# Altium footprint library GeneralCases.PcbLib: 45 footprints (part 1 of 3)
Each footprint in its own frame and in the unit in brackets; x right, y up, seen from the top. Pads: shape width x height; smd on the part's side, far side on the other; paste and mask are expansions set on the pad; w line width, h text height; cw(c..) or ccw(c..) is an arc to the next point about the centre after c.
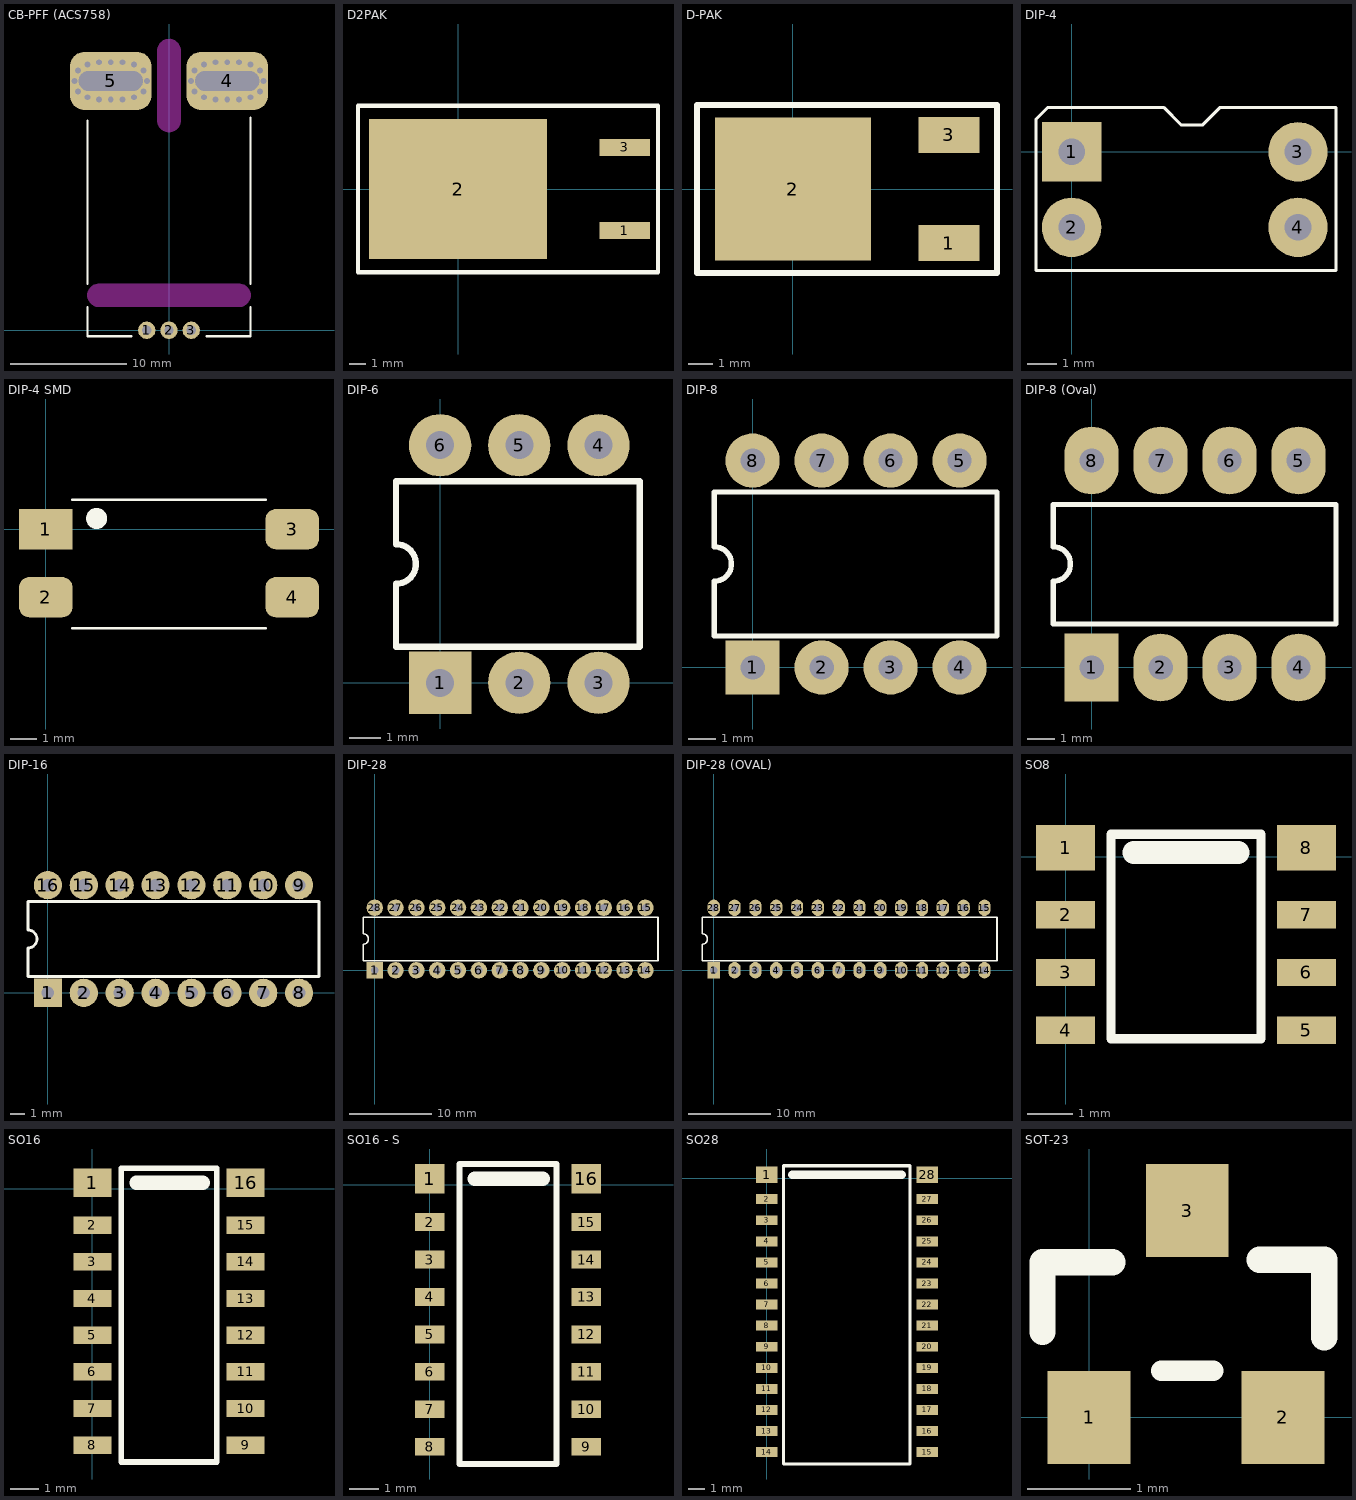
[diagram p0: the footprints below, top view; thin cyan lines are the x and y axes]

## CB-PFF (ACS758) [mm] "Allegro Current sensor"
height 7
pads (5):
  round 1.5 hole 0.8: 1(-1.91,0) 2(0,0) 3(1.91,0)
  rrect50% 7x5 hole 1.7 slot 5.5 at 0 deg: 4(5,21.4) 5(-5,21.4)
via -1.9,21.4 diameter 0.6 hole 0.5
via -5,23 diameter 0.6 hole 0.5
via -4,23 diameter 0.6 hole 0.5
via -6,23 diameter 0.6 hole 0.5
via -8.1,21.4 diameter 0.6 hole 0.5
via -2.2,22.3 diameter 0.6 hole 0.5
via -3,22.8 diameter 0.6 hole 0.5
via -7,22.8 diameter 0.6 hole 0.5
via -7.8,22.3 diameter 0.6 hole 0.5
via -7.8,20.5 diameter 0.6 hole 0.5
via -2.2,20.5 diameter 0.6 hole 0.5
via -7,20 diameter 0.6 hole 0.5
via -3,20 diameter 0.6 hole 0.5
via -6,19.8 diameter 0.6 hole 0.5
via -4,19.8 diameter 0.6 hole 0.5
via -5,19.8 diameter 0.6 hole 0.5
via 5,19.8 diameter 0.6 hole 0.5
via 6,19.8 diameter 0.6 hole 0.5
via 4,19.8 diameter 0.6 hole 0.5
via 7,20 diameter 0.6 hole 0.5
via 3,20 diameter 0.6 hole 0.5
via 7.8,20.5 diameter 0.6 hole 0.5
via 2.2,20.5 diameter 0.6 hole 0.5
via 2.2,22.3 diameter 0.6 hole 0.5
via 3,22.8 diameter 0.6 hole 0.5
via 7,22.8 diameter 0.6 hole 0.5
via 7.8,22.3 diameter 0.6 hole 0.5
via 1.9,21.4 diameter 0.6 hole 0.5
via 4,23 diameter 0.6 hole 0.5
via 6,23 diameter 0.6 hole 0.5
via 5,23 diameter 0.6 hole 0.5
via 8.1,21.4 diameter 0.6 hole 0.5
Top Overlay:
  lines w0.2: -7,2 -7,-0.5 -3.25,-0.5 ; -7,4 -7,18 ; 3.25,-0.5 7,-0.5 7,2 ; 7,4 7,18.25
Keep-Out Layer:
  board cut-out: 0,17 0.098,17 0.291,17.038 0.473,17.114 0.637,17.223 0.777,17.362 0.886,17.526 0.961,17.708 1,17.901 1,18 1,24 1,24.098 0.962,24.292 0.886,24.474 0.777,24.637 0.637,24.777 0.474,24.886 0.292,24.962 0.098,25 0,25 -0.099,25 -0.292,24.961 -0.474,24.886 -0.637,24.777 -0.777,24.637 -0.886,24.474 -0.961,24.292 -1,24.099 -1,24 -1,18 -1,17.901 -0.962,17.708 -0.886,17.526 -0.777,17.363 -0.638,17.223 -0.474,17.114 -0.292,17.038 -0.099,17
  board cut-out: 6,2 -6,2 -6.099,2 -6.292,2.038 -6.474,2.114 -6.637,2.223 -6.777,2.363 -6.886,2.526 -6.962,2.708 -7,2.902 -7,3 -7,3.099 -6.962,3.292 -6.886,3.474 -6.777,3.637 -6.637,3.777 -6.474,3.886 -6.292,3.962 -6.099,4 -6,4 6,4 6.099,4 6.292,3.962 6.474,3.886 6.637,3.777 6.777,3.637 6.886,3.474 6.962,3.292 7,3.099 7,3 7,2.902 6.962,2.708 6.886,2.526 6.777,2.363 6.638,2.223 6.474,2.114 6.292,2.038 6.098,2
3D body "ACS758-TTT-XXXX.step": height 7.1, standoff -3.52, extent -7,-0.554 7,22.2

## D2PAK [mm]
height 4.5
pads (3):
  rect 3.05x1.016 smd: 1(10,-2.5) 3(10,2.5)
  rect 10.66x8.38 smd: 2(0,0)
Top Overlay:
  lines w0.254: -6,-5 -6,5 12,5 12,-5 -6,-5
3D body "DPAK.step": height 4.88, standoff -0.13, extent -4.264,-5.08 11,5.08

## D-PAK [mm]
height 2.38
pads (3):
  rect 2.54x1.5 smd: 1(6.5,-2.25) 3(6.5,2.25)
  rect 6.48x5.97 smd: 2(0,0)
Top Overlay:
  lines w0.254: -4,-3.5 -4,3.5 8.5,3.5 8.5,-3.5 -4,-3.5
3D body "D-PAK (TO-252AA).step": height 2.3, standoff -0.01, extent -2.7,-3.29 7,3.29

## DIP-4 [mm]
pads (4):
  rect 2x2 hole 0.9: 1(0,0)
  round 2 hole 0.9: 2(0,-2.54) 3(7.62,0) 4(7.62,-2.54)
Top Overlay:
  lines w0.1: -1.2,-4 -1.2,1.1 -0.8,1.5 3.1,1.5 3.7,0.9 4.4,0.9 5,1.5 8.9,1.5 8.9,-4 -1.2,-4
3D body "DIP4.step": height 4.31, standoff -3.28, extent -0.2,-4 7.8,1.54

## DIP-4 SMD [mm]
pads (4):
  rect 2x1.5 smd: 1(0,0)
  rrect50% 2x1.5 smd: 2(0,-2.54) 3(9.2,0) 4(9.2,-2.54)
Top Overlay:
  circle w0.5: c1.9,0.4 r0.141
  lines w0.1: 1,-3.7 8.2,-3.7 ; 1,1.1 8.2,1.1
3D body "DIP4 SMD.step": height 3.9, standoff 0, extent -0.415,-3.716 9.615,1.116

## DIP-6 [mm] "DIP; 6 Leads; Row Spacing 7.62 mm; Pitch 2.54 mm"
height 5.08
pads (6):
  rect 2x2 hole 0.9: 1(0,0)
  round 2 hole 0.9: 2(2.54,0) 3(5.08,0) 4(5.08,7.62) 5(2.54,7.62) 6(0,7.62)
Top Overlay:
  lines w0.2: -1.41,1.16 6.4,1.16 6.4,6.46 -1.41,6.46 -1.41,4.445 cw(c-1.41,3.81) -1.41,3.175 -1.41,1.16
3D body "DIP6.step": height 4.31, standoff -3.28, extent -1.54,-0.2 6.54,7.8

## DIP-8 [mm] "DIP; 8 Leads; Row Spacing 7.62 mm; Pitch 2.54 mm"
height 5.08
pads (8):
  rect 2x2 hole 0.9: 1(0,0)
  round 2 hole 0.9: 2(2.54,0) 3(5.08,0) 4(7.62,0) 5(7.62,7.62) 6(5.08,7.62) 7(2.54,7.62) 8(0,7.62)
Top Overlay:
  lines w0.2: -1.41,1.16 9,1.16 9,6.46 -1.41,6.46 -1.41,4.445 cw(c-1.41,3.81) -1.41,3.175 -1.41,1.16
3D body "DIP8.STEP": height 4.19, standoff -2.67, extent -1.9,-0.137 9.53,7.737

## DIP-8 (Oval) [mm] "DIP; 8 Leads; Row Spacing 7.62 mm; Pitch 2.54 mm"
height 5.08
pads (8):
  rect 2x2.5 hole 0.9: 1(0,0)
  oval 2x2.5 hole 0.9: 2(2.54,0) 3(5.08,0) 4(7.62,0) 5(7.62,7.62) 6(5.08,7.62) 7(2.54,7.62) 8(0,7.62)
Top Overlay:
  lines w0.2: -1.41,1.6 -1.41,3.175 ccw(c-1.41,3.81) -1.41,4.445 -1.41,6 9,6 9,1.6 -1.41,1.6
3D body "DIP8.STEP": height 4.19, standoff -2.67, extent -1.9,-0.137 9.53,7.737

## DIP-16 [mm] "DIP; 16 Leads; Row Spacing 7.62 mm; Pitch 2.54 mm"
height 5.08
pads (16):
  rect 2x2 hole 0.9: 1(0,0)
  round 2 hole 0.9: 2(2.54,0) 3(5.08,0) 4(7.62,0) 5(10.16,0) 6(12.7,0) 7(15.24,0) 8(17.78,0) 9(17.78,7.62) 10(15.24,7.62) 11(12.7,7.62) 12(10.16,7.62) 13(7.62,7.62) 14(5.08,7.62) 15(2.54,7.62) 16(0,7.62)
Top Overlay:
  lines w0.2: -1.41,1.16 -1.41,3.175 ccw(c-1.41,3.81) -1.41,4.445 -1.41,6.46 19.19,6.46 19.19,1.16 -1.41,1.16
3D body "DIP16.step": height 4.19, standoff -2.57, extent -1.87,-0.049 19.72,7.825

## DIP-28 [mm] "DIP; 28 Leads; Row Spacing 7.62 mm; Pitch 2.54 mm"
height 5.08
pads (28):
  rect 2x2 hole 0.9: 1(0,0)
  round 2 hole 0.9: 2(2.54,0) 3(5.08,0) 4(7.62,0) 5(10.16,0) 6(12.7,0) 7(15.24,0) 8(17.78,0) 9(20.32,0) 10(22.86,0) 11(25.4,0) 12(27.94,0) 13(30.48,0) 14(33.02,0) 15(33.02,7.62) 16(30.48,7.62) 17(27.94,7.62) 18(25.4,7.62) 19(22.86,7.62) 20(20.32,7.62) 21(17.78,7.62) 22(15.24,7.62) 23(12.7,7.62) 24(10.16,7.62) 25(7.62,7.62) 26(5.08,7.62) 27(2.54,7.62) 28(0,7.62)
Top Overlay:
  lines w0.2: -1.41,1.16 -1.41,3.175 ccw(c-1.41,3.81) -1.41,4.445 -1.41,6.46 34.55,6.46 34.55,1.16 -1.41,1.16
3D body "DIP28.step": height 5.08, standoff -2.49, extent -1.45,-0.11 34.55,7.76

## DIP-28 (OVAL) [mm] "DIP; 28 Leads; Row Spacing 7.62 mm; Pitch 2.54 mm"
height 5.08
pads (28):
  rect 1.5x2 hole 0.9: 1(0,0)
  oval 1.5x2 hole 0.9: 2(2.54,0) 3(5.08,0) 4(7.62,0) 5(10.16,0) 6(12.7,0) 7(15.24,0) 8(17.78,0) 9(20.32,0) 10(22.86,0) 11(25.4,0) 12(27.94,0) 13(30.48,0) 14(33.02,0) 15(33.02,7.62) 16(30.48,7.62) 17(27.94,7.62) 18(25.4,7.62) 19(22.86,7.62) 20(20.32,7.62) 21(17.78,7.62) 22(15.24,7.62) 23(12.7,7.62) 24(10.16,7.62) 25(7.62,7.62) 26(5.08,7.62) 27(2.54,7.62) 28(0,7.62)
Top Overlay:
  lines w0.2: -1.41,1.16 34.55,1.16 34.55,6.46 -1.41,6.46 -1.41,4.445 cw(c-1.41,3.81) -1.41,3.175 -1.41,1.16
3D body "DIP28.step": height 5.08, standoff -2.49, extent -1.45,-0.11 34.55,7.76

## SO8 [mm]
pads (8):
  rect 1.3x1 smd: 1(0,0.2) 8(5.3,0.2)
  rect 1.3x0.6 smd: 2(0,-1.27) 3(0,-2.54) 4(0,-3.81) 5(5.3,-3.81) 6(5.3,-2.54) 7(5.3,-1.27)
Top Overlay:
  lines w0.2: 1,-4 1,0.5 4.3,0.5 4.3,-4 1,-4
  lines w0.5: 1.5,0.1 3.8,0.1
3D body "SO8.step": height 1.6, standoff 0, extent -0.32,-4.325 5.67,0.575

## SO16 [mm]
pads (16):
  rect 1.3x1 smd: 1(0,0.2) 16(5.3,0.2)
  rect 1.3x0.6 smd: 2(0,-1.27) 3(0,-2.54) 4(0,-3.81) 5(0,-5.08) 6(0,-6.35) 7(0,-7.62) 8(0,-8.89) 9(5.3,-8.89) 10(5.3,-7.62) 11(5.3,-6.35) 12(5.3,-5.08) 13(5.3,-3.81) 14(5.3,-2.54) 15(5.3,-1.27)
Top Overlay:
  lines w0.2: 1,-9.475 4.3,-9.475 4.3,0.7 1,0.7 1,-9.475
  lines w0.5: 1.525,0.2 3.825,0.2
3D body "SO16.step": height 1.7, standoff 0, extent -0.35,-9.55 5.65,0.65

## SO16 - S [mm]
pads (16):
  rect 1x1 smd: 1(0,0.2) 16(5.3,0.2)
  rect 1x0.6 smd: 2(0,-1.27) 3(0,-2.54) 4(0,-3.81) 5(0,-5.08) 6(0,-6.35) 7(0,-7.62) 8(0,-8.89) 9(5.3,-8.89) 10(5.3,-7.62) 11(5.3,-6.35) 12(5.3,-5.08) 13(5.3,-3.81) 14(5.3,-2.54) 15(5.3,-1.27)
Top Overlay:
  lines w0.2: 1,-9.475 1,0.7 4.3,0.7 4.3,-9.475 1,-9.475
  lines w0.5: 1.525,0.2 3.825,0.2
3D body "SO16.step": height 1.7, standoff 0, extent -0.35,-9.55 5.65,0.65

## SO28 [mm]
pads (28):
  rect 1.3x1 smd: 1(0,0.2) 28(9.65,0.2)
  rect 1.3x0.6 smd: 2(0,-1.27) 3(0,-2.54) 4(0,-3.81) 5(0,-5.08) 6(0,-6.35) 7(0,-7.62) 8(0,-8.89) 9(0,-10.16) 10(0,-11.43) 11(0,-12.7) 12(0,-13.97) 13(0,-15.24) 14(0,-16.51) 15(9.65,-16.51) 16(9.65,-15.24) 17(9.65,-13.97) 18(9.65,-12.7) 19(9.65,-11.43) 20(9.65,-10.16) 21(9.65,-8.89) 22(9.65,-7.62) 23(9.65,-6.35) 24(9.65,-5.08) 25(9.65,-3.81) 26(9.65,-2.54) 27(9.65,-1.27)
Top Overlay:
  lines w0.2: 1,-17.225 1,0.75 8.625,0.75 8.625,-17.225 1,-17.225
  lines w0.5: 1.525,0.2 8.125,0.2
3D body "SO28 v2.step": height 2.63, standoff -0.01, extent -0.485,-17.28 10.185,0.8

## SOT-23 [mm]
height 2.38
pads (3):
  rect 0.8x0.9 smd: 1(0,0) 2(1.875,0) 3(0.95,2)
Top Overlay:
  lines w0.2: 0.7,0.45 1.2,0.45
  lines w0.254: -0.45,0.825 -0.45,1.5 0.225,1.5 ; 1.65,1.525 2.275,1.525 2.275,0.775
3D body "SOT-23-2.step": height 1.08, standoff 0, extent -0.575,-0.32 2.425,2.32